# EAGLE library part ZIN18 (library mynixies)
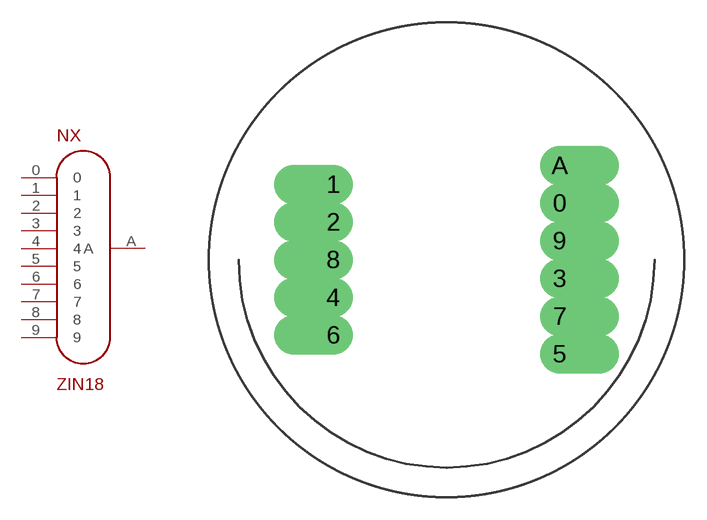
[diagram p21: symbol with the pads of ZIN18; footprint ZIN18]

Designator prefix NX

## ZIN18  [ZIN18]
0  0  pas
1  1  pas
2  2  pas
3  3  pas
4  4  pas
5  5  pas
6  6  pas
7  7  pas
8  8  pas
9  9  pas
A  A  pas

## Footprint ZIN18 (pad centres in mm)
drill 1.778 pad 1.956 offset: 0 7.62,3.81; 1 -7.62,5.08; 2 -7.62,2.54; 3 7.62,-1.27; 4 -7.62,-2.54; 5 7.62,-6.35; 6 -7.62,-5.08; 7 7.62,-3.81; 8 -7.62,0; 9 7.62,1.27; A 7.62,6.35